# Altium schematic symbol library LM_TC1-1T+.Schlib: 1 symbol
Pins are listed as number, name and electrical type; pins without a type are passive.

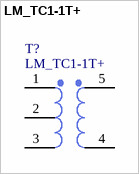
[diagram p0: symbol LM_TC1-1T+]

## LM_TC1-1T+
designator T?
RF transformer
pins: 1, 2, 3, 4, 5
2 alternate drawings of the same symbol